# EAGLE library part DS3231MZ+ (library lbrzak)
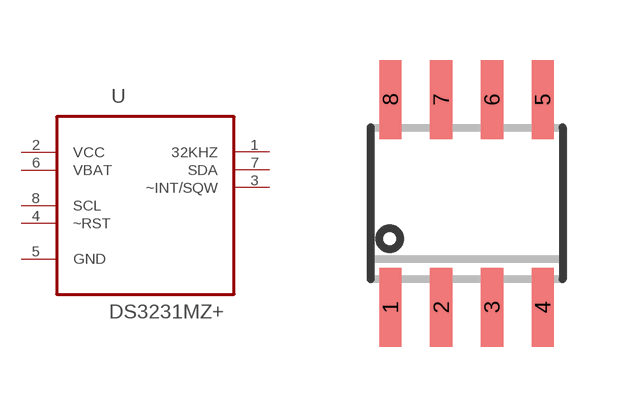
[diagram p1: symbol with the pads of SOIC8_150MIL; footprint SOIC8_150MIL]

Designator prefix U

## DS3231MZ+  [SOIC8_150MIL]
1  32KHZ  out
2  VCC  pwr
3  ~INT/SQW  out
4  ~RST
5  GND  pas
6  VBAT  pwr
7  SDA
8  SCL  in

## Footprint SOIC8_150MIL (pad centres in mm)
smd 0.559 x 1.981: 1 -1.905,-2.6; 2 -0.635,-2.6; 3 0.635,-2.6; 4 1.905,-2.6; 5 1.905,2.6; 6 0.635,2.6; 7 -0.635,2.6; 8 -1.905,2.6